# EAGLE library part AD80XX (library ad80xx)
AD high bandwidth dual opamp
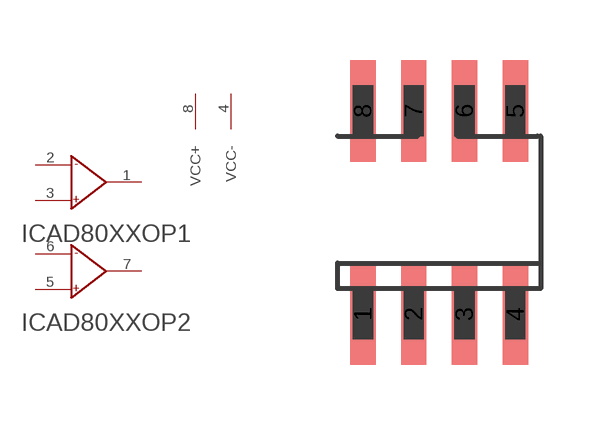
[diagram p0: symbol with the pads of SO08; footprint SO08]

Designator prefix IC; gates AD80XXOP1=AD80XX AD80XXOP2=AD80XX SUPPLY=SUPPLY

## AD80XX  [SO08]
1  AD80XXOP1:OUT  out
2  AD80XXOP1:IN-  in
3  AD80XXOP1:IN+  in
4  SUPPLY:VCC-  sup
5  AD80XXOP2:IN+  in
6  AD80XXOP2:IN-  in
7  AD80XXOP2:OUT  out
8  SUPPLY:VCC+  sup

## Footprint SO08 (pad centres in mm)
smd 0.635 x 2.54: 1 -1.905,-2.54; 2 -0.635,-2.54; 3 0.635,-2.54; 4 1.905,-2.54; 5 1.905,2.54; 6 0.635,2.54; 7 -0.635,2.54; 8 -1.905,2.54